# EAGLE library part TEXAS_INSTRUMENTS-DRAM_SOLUTION-TPS51116_RGE_24 (library Module_Regulators)
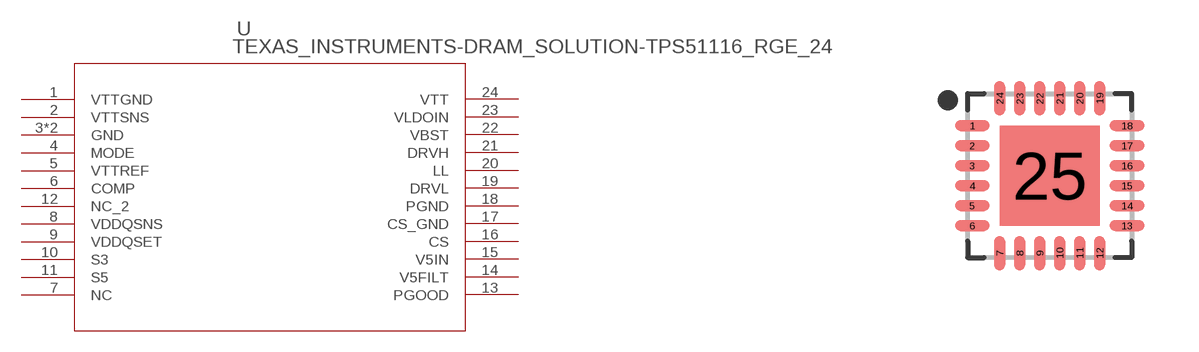
[diagram p25: symbol with the pads of TEXAS_INSTRUMENTS-DRAM_SOLUTION-TPS51116_RGE_24; footprint TEXAS_INSTRUMENTS-DRAM_SOLUTION-TPS51116_RGE_24]

Designator prefix U

## TEXAS_INSTRUMENTS-DRAM_SOLUTION-TPS51116_RGE_24  [TEXAS_INSTRUMENTS-DRAM_SOLUTION-TPS51116_RGE_24]
1  VTTGND  pwr
2  VTTSNS  in
3  GND  pwr
4  MODE  in
5  VTTREF  out
6  COMP
7  NC  pas
8  VDDQSNS
9  VDDQSET  in
10  S3  in
11  S5  in
12  NC_2  pas
13  PGOOD  out
14  V5FILT  in
15  V5IN  in
16  CS
17  CS_GND  pwr
18  PGND  pwr
19  DRVL  out
20  LL
21  DRVH  out
22  VBST
23  VLDOIN
24  VTT
25  GND  pwr

## Footprint TEXAS_INSTRUMENTS-DRAM_SOLUTION-TPS51116_RGE_24 (pad centres in mm)
24-QFN, 0.50 mm pitch, 4.00 X 4.00 X 1.00 mm body, 2.50 X 2.50 mm thermal pad 24-pin QFN package with 0.50 mm pitch with body size 4.00 X 4.00 X 1.00 mm and thermal pad size 2.50 X 2.50 mm
smd 0.86 x 0.27: 1 -1.935,1.25; 2 -1.935,0.75; 3 -1.935,0.25; 4 -1.935,-0.25; 5 -1.935,-0.75; 6 -1.935,-1.25; 13 1.935,-1.25; 14 1.935,-0.75; 15 1.935,-0.25; 16 1.935,0.25; 17 1.935,0.75; 18 1.935,1.25
smd 0.27 x 0.86: 7 -1.25,-1.935; 8 -0.75,-1.935; 9 -0.25,-1.935; 10 0.25,-1.935; 11 0.75,-1.935; 12 1.25,-1.935; 19 1.25,1.935; 20 0.75,1.935; 21 0.25,1.935; 22 -0.25,1.935; 23 -0.75,1.935; 24 -1.25,1.935
smd 2.5 x 2.5: 25 0,0